# EAGLE library part AE45141H-995 (library saw-filters-narrowband)
AE45141H-995 Параметр Ед. изм. Мин. значение Тип. значение Макс. значение Центральная частота МГц 994 995 996 Минимальное вносимое затухание дБ - 1.9 3 Полоса среза по уровню -1 дБ МГц 17 18 - Полоса среза по уровню -30 дБ МГц - 52 - Неравномерность АЧХ дБ - - 1 Групповое время задержки нс - - - Гарантированное затухание дБ - 40 - Температурный диапазон °C -55 22 +85 Материал подложки - - Танталат лития 36 -
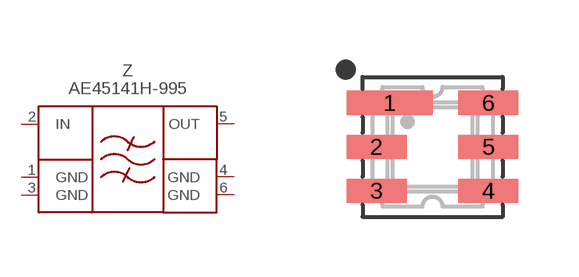
[diagram p100: symbol with the pads of DCC6; footprint DCC6]

Designator prefix Z

## AE45141H-995  [DCC6]
1  GND  pwr
2  IN  in
3  GND  pwr
4  GND  pwr
5  OUT  out
6  GND  pwr

## Footprint DCC6 (pad centres in mm)
smd 2.15 x 0.6: 1 -1.075,1.1
smd 1.5 x 0.6: 2 -1.4,0; 3 -1.4,-1.1; 4 1.4,-1.1; 5 1.4,0; 6 1.4,1.1